# Altium footprint library 1_1123723_4.PcbLib: 1 footprints
Each footprint in its own frame and in the unit in brackets; x right, y up, seen from the top. Pads: shape width x height; smd on the part's side, far side on the other; paste and mask are expansions set on the pad; w line width, h text height; cw(c..) or ccw(c..) is an arc to the next point about the centre after c.
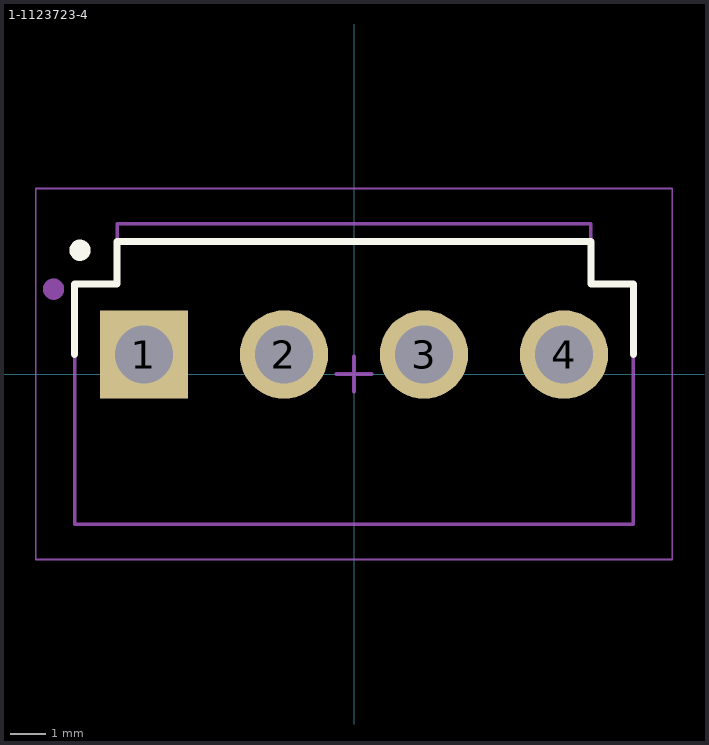
[diagram p0: the footprint, top view; thin cyan lines are the x and y axes]

## 1-1123723-4 [mm] "Economy Power, 4 Pins, Pitch 3,96mm, Plug Header"
height 10.7
pads (4):
  rect 2.5x2.5 hole 1.65: 1(-5.94,0.55)
  round 2.5 hole 1.65: 2(-1.98,0.55) 3(1.98,0.55) 4(5.94,0.55)
Top Overlay:
  circle w0.3: c-7.75,3.5 r0.15
  lines w0.2: -7.9,0.55 -7.9,2.55 -6.7,2.55 -6.7,3.75 6.7,3.75 6.7,2.55 7.9,2.55 7.9,0.55
Top Comment:
  text ".Comment" at 1,5.5 h1.2
Top Designator:
  text ".Designator" at -0.5,5.5 h1.2
Top Component Outline:
  circle w0.3: c-8.5,2.4 r0.15
  lines w0.1: -6.7,3.75 6.7,3.75 ; -7.9,-4.25 -7.9,2.55 -6.7,2.55 -6.7,4.25 6.7,4.25 6.7,2.55 7.9,2.55 7.9,-4.25 -7.9,-4.25
Top Courtyard (Mech15):
  lines w0.05: -9,-5.25 9,-5.25 9,5.25 -9,5.25 -9,-5.25
  lines w0.1: -0.5,0 0.5,0 ; 0,-0.5 0,0.5
3D body "c-1-1123723-4-ad-3d.stp": height 10.7, standoff -3.7, extent -7.89,-4.25 7.89,4.25